# Altium footprint library 2.62-SMD.PcbLib: 45 footprints (part 3 of 3)
Each footprint in its own frame and in the unit in brackets; x right, y up, seen from the top. Pads: shape width x height; smd on the part's side, far side on the other; paste and mask are expansions set on the pad; w line width, h text height; cw(c..) or ccw(c..) is an arc to the next point about the centre after c.
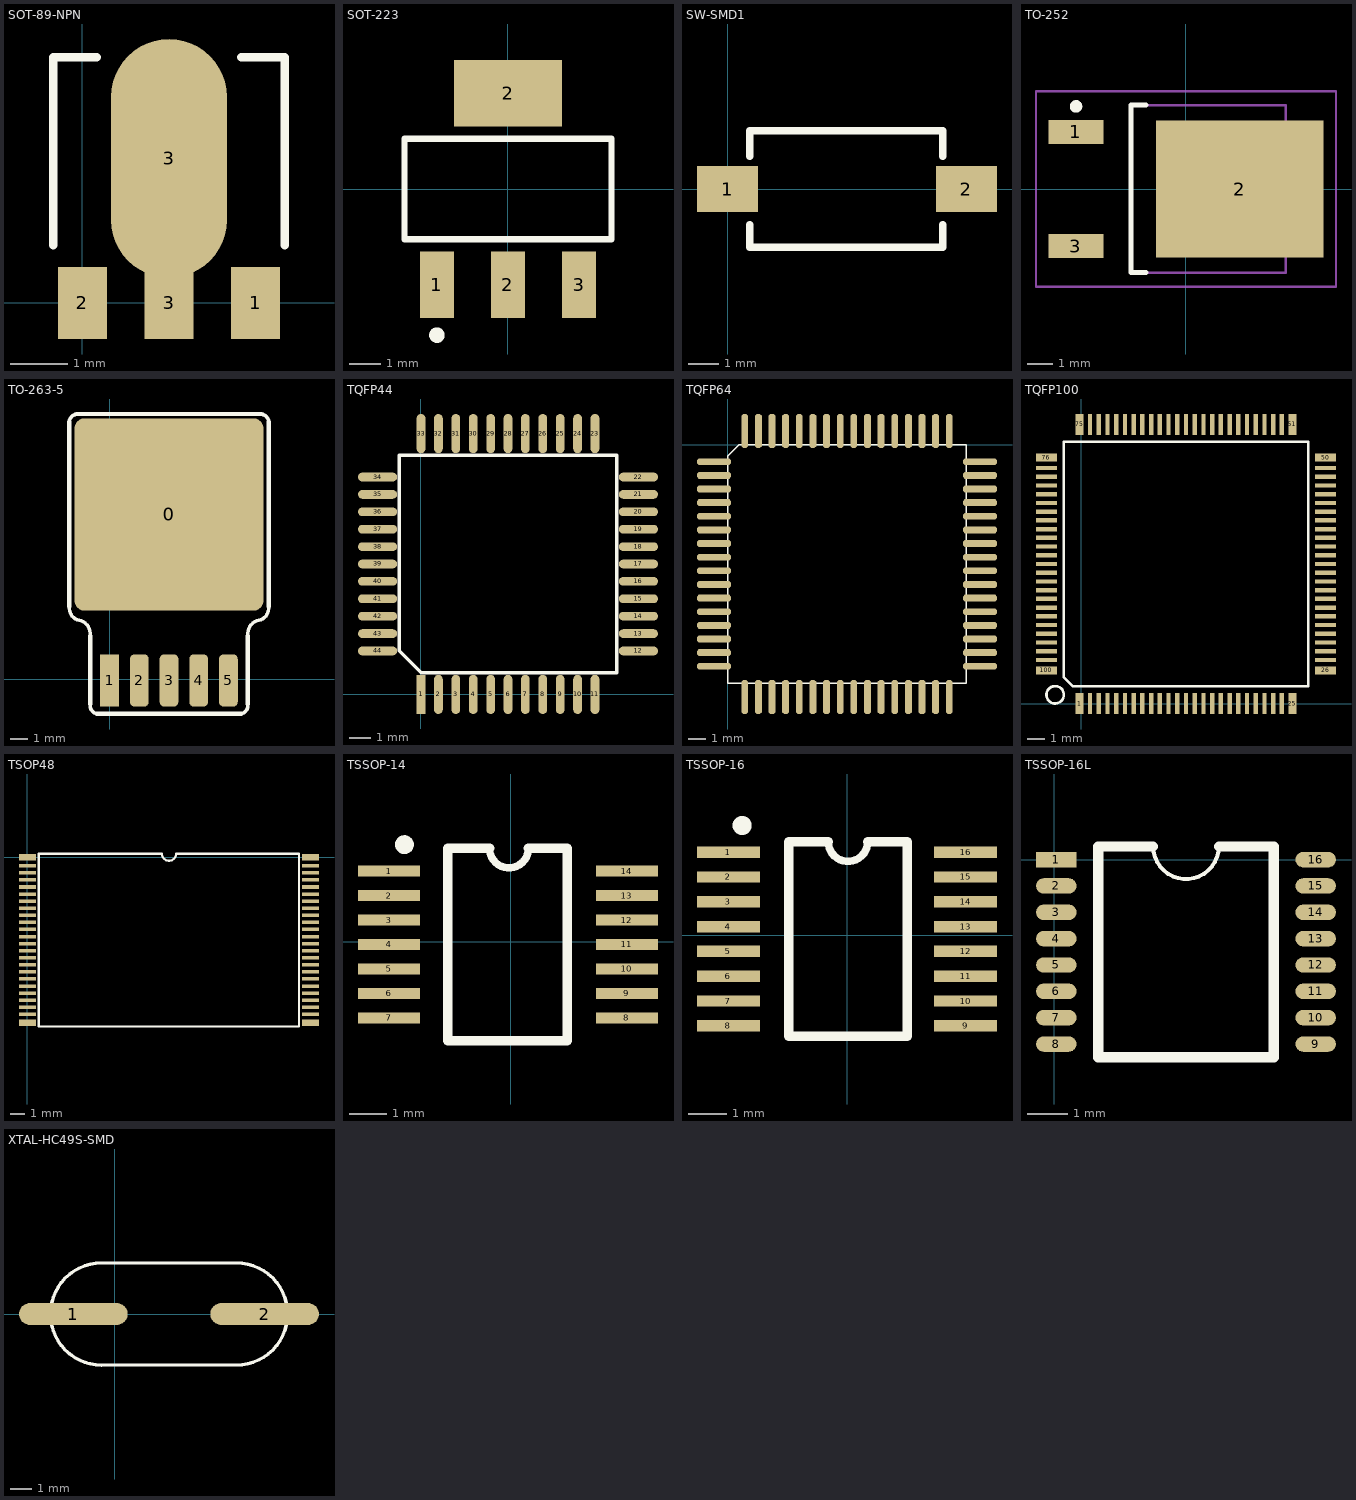
[diagram p2: the footprints below, top view; thin cyan lines are the x and y axes]

## SOT-89-NPN [mil]
pads (4):
  rect 34.02x50 smd: 1(120,0) 2(0,0)
  rect 34x50 smd: 3(60,0)
  oval 80x165.35 smd: 3(60,100)
Top Overlay:
  lines w5.91: -20,40 -20,170 10,170 ; 110,170 140,170 140,40
3D body "SW3dPS-SOT89.STEP": height 62.57, standoff -0.76, extent -30.55,-16.65 150.55,150.67

## SOT-223 [mm] "SOT-223/SC-73; 4 Leads; Body 6.7 x 7.3 mm, inc. leads (LxW max)"
height 1.78
pads (4):
  rect 1.1x2.15 smd: 1(-2.3,-3.1) 2(0,-3.1) 3(2.3,-3.1)
  rect 3.5x2.15 smd: 2(0,3.1)
Top Overlay:
  circle w0.25: c-2.3,-4.725 r0.125
  lines w0.2: -3.35,-1.625 -3.35,1.625 3.35,1.625 3.35,-1.625 -3.35,-1.625
3D body "SW3DPS-SOT-223-DEFAULT.STEP": height 1.65, standoff -0.03, extent -3.251,-3.58 3.249,3.38

## SW-SMD1 [mm]
pads (2):
  rect 2x1.5 smd: 1(0,0) 2(7.8,0)
Top Overlay:
  lines w0.254: 0.725,-1.168 0.725,-1.9 7.025,-1.9 7.025,-1.168 ; 0.725,1.067 0.725,1.9 7.025,1.9 7.025,1.067
3D body "SMD按键.STEP": height 2.5, standoff 0, extent -0.059,-1.945 7.831,1.905

## TO-252 [mm]
pads (3):
  rect 2.2x0.95 smd: 1(-4.4,2.28) 3(-4.4,-2.28)
  rect 6.7x5.5 smd: 2(2.15,0)
Top Overlay:
  circle w0.25: c-4.4,3.305 r0.125
  lines w0.2: -1.6,-3.35 -2.2,-3.35 -2.2,3.35 -1.6,3.35
Mechanical 13:
  lines w0.1: -2.2,-3.35 -2.2,3.35 4,3.35 4,-3.35 -2.2,-3.35
Mechanical 15:
  lines w0.1: -0.5,0 0.5,0 ; 0,-0.5 0,0.5 ; -6,-3.9 -6,3.9 6,3.9 6,-3.9 -6,-3.9
3D body "User Library-DPAK-1.STEP": height 2.39, standoff -0.02, extent -4.9,-3.27 5.038,3.27

## TO-263-5 [mm]
pads (6):
  rrect10% 10.8x11 smd: 0(3.378,9.424)
  rect 1.07x3 smd: 1(-0.022,-0.076)
  rrect50% 1.07x3 smd: 2(1.678,-0.076) 3(3.378,-0.076) 4(5.078,-0.076) 5(6.778,-0.076)
Top Overlay:
  lines w0.2: -1.133,-1.448 ccw(c-0.649,-1.507) -0.747,-1.985 ; 7.504,-1.985 ccw(c7.406,-1.507) 7.89,-1.448
  lines w0.203: -2.322,4.144 ccw(c-1.627,4.059) -1.767,3.373 cw(c-1.928,2.589) -1.134,2.492 ; -2.322,14.783 cw(c-1.844,14.685) -1.921,15.167 ; 7.89,2.492 cw(c8.684,2.589) 8.524,3.373 ccw(c8.383,4.059) 9.078,4.144 ; 8.677,15.167 cw(c8.6,14.685) 9.078,14.783
  lines w0.254: -2.322,4.144 -2.322,14.724 ; -1.922,15.174 8.678,15.174 ; -1.134,-1.448 -1.134,2.492 ; -0.747,-1.985 7.504,-1.985 ; 7.89,-1.448 7.89,2.492 ; 9.078,4.144 9.078,14.724
3D body "SW3dPS-LTC DD-PAK.STEP": height 4.48, standoff 0, extent -1.759,-0.127 8.465,14.224

## TQFP44 [mm]
pads (44):
  rect 0.4x1.8 smd: 1(0.011,0.002)
  oval 0.4x1.8 smd: 2(0.811,0.002) 3(1.611,0.002) 4(2.411,0.002) 5(3.211,0.002) 6(4.011,0.002) 7(4.811,0.002) 8(5.611,0.002) 9(6.411,0.002) 10(7.211,0.002) 11(8.011,0.002) 23(8.011,12.002) 24(7.211,12.002) 25(6.411,12.002) 26(5.611,12.002) 27(4.811,12.002) 28(4.011,12.002) 29(3.211,12.002) 30(2.411,12.002) 31(1.611,12.002) 32(0.811,12.002) 33(0.011,12.002)
  oval 1.8x0.4 smd: 12(10.011,2.002) 13(10.011,2.802) 14(10.011,3.602) 15(10.011,4.402) 16(10.011,5.202) 17(10.011,6.002) 18(10.011,6.802) 19(10.011,7.602) 20(10.011,8.402) 21(10.011,9.202) 22(10.011,10.002) 34(-1.989,10.002) 35(-1.989,9.202) 36(-1.989,8.402) 37(-1.989,7.602) 38(-1.989,6.802) 39(-1.989,6.002) 40(-1.989,5.202) 41(-1.989,4.402) 42(-1.989,3.602) 43(-1.989,2.802) 44(-1.989,2.002)
Top Overlay:
  lines w0.15: -0.989,2.002 0.011,1.002 9.011,1.002 9.011,11.002 -0.989,11.002 -0.989,2.002
3D body "User Library-TQFP44.step": height 1.03, standoff -0.04, extent -1.989,0.002 10.011,12.002

## TQFP64 [mm] "淘宝ID:黄晶宝石"
pads (64):
  oct 2x0.4 smd: 1(-0.8,-1) 2(-0.8,-1.8) 3(-0.8,-2.6) 4(-0.8,-3.4) 5(-0.8,-4.2) 6(-0.8,-5) 7(-0.8,-5.8) 8(-0.8,-6.6) 9(-0.8,-7.4) 10(-0.8,-8.2) 11(-0.8,-9) 12(-0.8,-9.8) 13(-0.8,-10.6) 14(-0.8,-11.4) 15(-0.8,-12.2) 16(-0.8,-13) 33(14.8,-13) 34(14.8,-12.2) 35(14.8,-11.4) 36(14.8,-10.6) 37(14.8,-9.8) 38(14.8,-9) 39(14.8,-8.2) 40(14.8,-7.4) 41(14.8,-6.6) 42(14.8,-5.8) 43(14.8,-5) 44(14.8,-4.2) 45(14.8,-3.4) 46(14.8,-2.6) 47(14.8,-1.8) 48(14.8,-1)
  oct 0.4x2 smd: 17(1,-14.8) 18(1.8,-14.8) 19(2.6,-14.8) 20(3.4,-14.8) 21(4.2,-14.8) 22(5,-14.8) 23(5.8,-14.8) 24(6.6,-14.8) 25(7.4,-14.8) 26(8.2,-14.8) 27(9,-14.8) 28(9.8,-14.8) 29(10.6,-14.8) 30(11.4,-14.8) 31(12.2,-14.8) 32(13,-14.8) 49(13,0.8) 50(12.2,0.8) 51(11.4,0.8) 52(10.6,0.8) 53(9.8,0.8) 54(9,0.8) 55(8.2,0.8) 56(7.4,0.8) 57(6.6,0.8) 58(5.8,0.8) 59(5,0.8) 60(4.2,0.8) 61(3.4,0.8) 62(2.6,0.8) 63(1.8,0.8) 64(1,0.8)
Top Overlay:
  lines w0.1: 0,-14 14,-14 14,0 0.663,0 0,-0.663 0,-14
3D body "User Library-TQFP64-1.step": height 1.35, standoff -0.01, extent -1.124,-15.124 15.124,1.124

## TQFP100 [mm] "淘宝ID:黄晶宝石"
pads (100):
  rect 0.45x1.2 smd: 1(-0.092,0.012) 25(12.108,0.012) 51(12.108,16.012) 75(-0.092,16.012)
  rect 0.25x1.2 smd: 2(0.508,0.012) 3(1.008,0.012) 4(1.508,0.012) 5(2.008,0.012) 6(2.508,0.012) 7(3.008,0.012) 8(3.508,0.012) 9(4.008,0.012) 10(4.508,0.012) 11(5.008,0.012) 12(5.508,0.012) 13(6.008,0.012) 14(6.508,0.012) 15(7.008,0.012) 16(7.508,0.012) 17(8.008,0.012) 18(8.508,0.012) 19(9.008,0.012) 20(9.508,0.012) 21(10.008,0.012) 22(10.508,0.012) 23(11.008,0.012) 24(11.508,0.012) 52(11.508,16.012) 53(11.008,16.012) 54(10.508,16.012) 55(10.008,16.012) 56(9.508,16.012) 57(9.008,16.012) 58(8.508,16.012) 59(8.008,16.012) 60(7.508,16.012) 61(7.008,16.012) 62(6.508,16.012) 63(6.008,16.012) 64(5.508,16.012) 65(5.008,16.012) 66(4.508,16.012) 67(4.008,16.012) 68(3.508,16.012) 69(3.008,16.012) 70(2.508,16.012) 71(2.008,16.012) 72(1.508,16.012) 73(1.008,16.012) 74(0.508,16.012)
  rect 1.2x0.45 smd: 26(14.008,1.912) 50(14.008,14.112) 76(-1.992,14.112) 100(-1.992,1.912)
  rect 1.2x0.25 smd: 27(14.008,2.512) 28(14.008,3.012) 29(14.008,3.512) 30(14.008,4.012) 31(14.008,4.512) 32(14.008,5.012) 33(14.008,5.512) 34(14.008,6.012) 35(14.008,6.512) 36(14.008,7.012) 37(14.008,7.512) 38(14.008,8.012) 39(14.008,8.512) 40(14.008,9.012) 41(14.008,9.512) 42(14.008,10.012) 43(14.008,10.512) 44(14.008,11.012) 45(14.008,11.512) 46(14.008,12.012) 47(14.008,12.512) 48(14.008,13.012) 49(14.008,13.512) 77(-1.992,13.512) 78(-1.992,13.012) 79(-1.992,12.512) 80(-1.992,12.012) 81(-1.992,11.512) 82(-1.992,11.012) 83(-1.992,10.512) 84(-1.992,10.012) 85(-1.992,9.512) 86(-1.992,9.012) 87(-1.992,8.512) 88(-1.992,8.012) 89(-1.992,7.512) 90(-1.992,7.012) 91(-1.992,6.512) 92(-1.992,6.012) 93(-1.992,5.512) 94(-1.992,5.012) 95(-1.992,4.512) 96(-1.992,4.012) 97(-1.992,3.512) 98(-1.992,3.012) 99(-1.992,2.512)
Top Overlay:
  circle w0.15: c-1.492,0.512 r0.5
  lines w0.15: -0.992,1.512 -0.492,1.012 13.008,1.012 13.008,15.012 -0.992,15.012 -0.992,1.512
3D body "User Library-TQFP100_Grid_0_5.STEP": height 1.2, standoff 0, extent -1.992,0.012 14.008,16.012

## TSOP48 [mm] "淘宝ID:黄晶宝石"
pads (48):
  rect 1.2x0.45 smd: 1(0,0) 24(0,-11.7) 25(20,-11.7) 48(20,0)
  rect 1.2x0.25 smd: 2(0,-0.6) 3(0,-1.1) 4(0,-1.6) 5(0,-2.1) 6(0,-2.6) 7(0,-3.1) 8(0,-3.6) 9(0,-4.1) 10(0,-4.6) 11(0,-5.1) 12(0,-5.6) 13(0,-6.1) 14(0,-6.6) 15(0,-7.1) 16(0,-7.6) 17(0,-8.1) 18(0,-8.6) 19(0,-9.1) 20(0,-9.6) 21(0,-10.1) 22(0,-10.6) 23(0,-11.1) 26(20,-11.1) 27(20,-10.6) 28(20,-10.1) 29(20,-9.6) 30(20,-9.1) 31(20,-8.6) 32(20,-8.1) 33(20,-7.6) 34(20,-7.1) 35(20,-6.6) 36(20,-6.1) 37(20,-5.6) 38(20,-5.1) 39(20,-4.6) 40(20,-4.1) 41(20,-3.6) 42(20,-3.1) 43(20,-2.6) 44(20,-2.1) 45(20,-1.6) 46(20,-1.1) 47(20,-0.6)
Top Overlay:
  lines w0.15: 0.8,-11.95 0.8,0.25 9.5,0.25 ccw(c10,0.25) 10.5,0.25 19.2,0.25 19.2,-11.95 0.8,-11.95
3D body "User Library-TSOP48.step": height 1.25, standoff -0.01, extent -0.05,-11.9 20.05,0.2

## TSSOP-14 [mm]
pads (14):
  rect 1.65x0.3 smd: 1(-3.232,1.874) 2(-3.232,1.224) 3(-3.232,0.574) 4(-3.232,-0.076) 5(-3.232,-0.726) 6(-3.232,-1.376) 7(-3.232,-2.026) 8(3.08,-2.026) 9(3.08,-1.376) 10(3.08,-0.726) 11(3.08,-0.076) 12(3.08,0.574) 13(3.08,1.224) 14(3.08,1.874)
Top Overlay:
  circle w0.25: c-2.826,2.574 r0.125
  lines w0.2: -0.567,2.474 ccw(c-0.051,2.474) 0.466,2.474
  lines w0.254: -0.567,2.474 -1.676,2.474 -1.676,-2.626 1.499,-2.626 1.499,2.474 0.466,2.474
3D body "PW0014A.stp": height 1.01, standoff 0.01, extent -3.363,-2.591 3.058,2.409

## TSSOP-16 [mm] "26mil,"
pads (16):
  rect 1.65x0.3 smd: 1(-3.105,2.173) 2(-3.105,1.523) 3(-3.105,0.873) 4(-3.105,0.223) 5(-3.105,-0.427) 6(-3.105,-1.077) 7(-3.105,-1.727) 8(-3.105,-2.377) 9(3.105,-2.377) 10(3.105,-1.727) 11(3.105,-1.077) 12(3.105,-0.427) 13(3.105,0.223) 14(3.105,0.873) 15(3.105,1.523) 16(3.105,2.173)
Top Overlay:
  circle w0.25: c-2.75,2.873 r0.125
  lines w0.2: -0.491,2.448 ccw(c0.025,2.448) 0.542,2.448
  lines w0.254: -0.491,2.448 -1.525,2.448 -1.525,-2.652 1.575,-2.652 1.575,2.448 0.542,2.448
3D body "TSSOP16A.stp": height 1.01, standoff 0.01, extent -3.21,-2.591 3.21,2.409

## TSSOP-16L [mm]
pads (16):
  rect 1x0.381 smd: 1(0.051,0)
  oval 1x0.381 smd: 2(0.051,-0.65) 3(0.051,-1.3) 4(0.051,-1.95) 5(0.051,-2.6) 6(0.051,-3.25) 7(0.051,-3.9) 8(0.051,-4.55) 9(6.451,-4.55) 10(6.451,-3.9) 11(6.451,-3.25) 12(6.451,-2.6) 13(6.451,-1.95) 14(6.451,-1.3) 15(6.451,-0.65) 16(6.451,0)
Top Overlay:
  lines w0.1: 2.443,0.325 ccw(c3.251,0.325) 4.058,0.325
  lines w0.254: 2.438,0.325 1.086,0.325 1.086,-4.875 5.416,-4.875 5.416,0.325 4.064,0.325
3D body "SW3dPS-JEDEC MO-153 (TSSOP).STEP": height 1.2, standoff 0, extent 0.049,-4.775 6.504,0.225

## XTAL-HC49S-SMD [mm] "淘宝ID:黄晶宝石"
pads (2):
  oval 5x1 smd: 1(-1.9,0) 2(6.9,0)
Top Overlay:
  lines w0.15: -0.606,-2.352 5.603,-2.35 ; -0.602,-2.352 cw(c-0.602,-0.002) -0.602,2.348 ; -0.6,2.349 5.602,2.35 ; 5.604,-2.35 ccw(c5.604,0) 5.604,2.35
3D body "User Library-SMU4.STEP": height 4.02, standoff 0.02, extent -3.749,-2.4 8.751,2.4